# Altium schematic symbol library 2SC5865.Schlib: 1 symbol
Pins are listed as number, name and electrical type; pins without a type are passive.

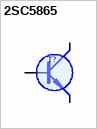
[diagram p0: symbol 2SC5865]

## 2SC5865
designator T?
SOT23     60V    1A 250MHz  10p (10V) (2SA2092)
pins: 1 B, 2 E (oe), 3 C (oc)
1 alternate drawing of the same symbol